# Altium footprint library Molex_0533980471.PcbLib: 1 footprints
Each footprint in its own frame and in the unit in brackets; x right, y up, seen from the top. Pads: shape width x height; smd on the part's side, far side on the other; paste and mask are expansions set on the pad; w line width, h text height; cw(c..) or ccw(c..) is an arc to the next point about the centre after c.
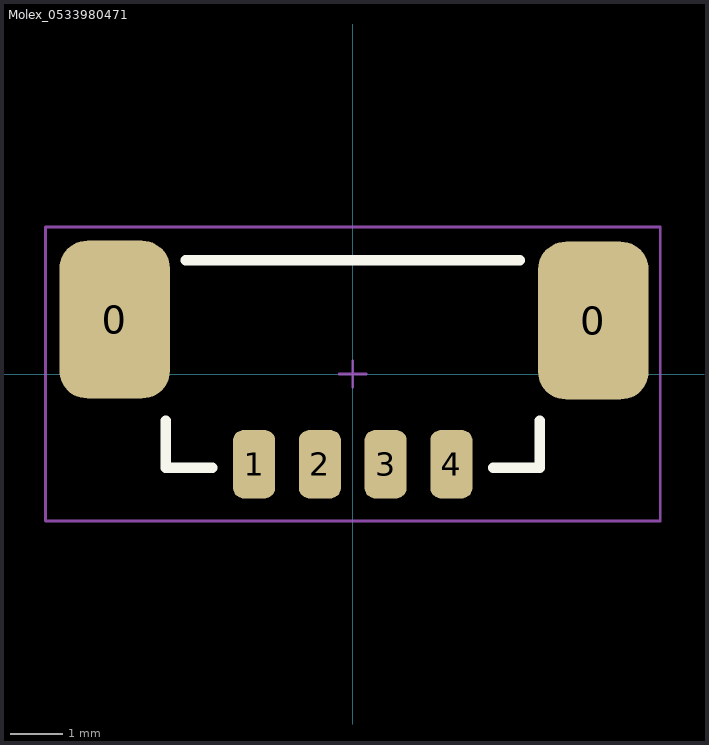
[diagram p0: the footprint, top view; thin cyan lines are the x and y axes]

## Molex_0533980471 [mm]
pads (6):
  rrect50% 2.1x3 smd: 0(-4.525,1.035) 0(4.572,1.016)
  rrect50% 0.8x1.3 smd: 1(-1.875,-1.714) 2(-0.625,-1.714) 3(0.625,-1.714) 4(1.875,-1.714)
Top Overlay:
  lines w0.2: -3.556,-0.889 -3.556,-1.778 -2.667,-1.778 ; -3.175,2.159 3.175,2.159 ; 2.667,-1.778 3.556,-1.778 3.556,-0.889
Mechanical 15:
  lines w0.05: -0.254,0 0.254,0 ; 0,-0.254 0,0.254 ; -5.842,-2.794 5.842,-2.794 5.842,2.794 -5.842,2.794 -5.842,-2.794
3D body "533980471.stp": height 4.71, standoff 0.02, extent -5.075,-2.095 5.075,2.104